# Altium footprint library PcbLib1.PcbLib: 53 footprints (part 4 of 4)
Each footprint in its own frame and in the unit in brackets; x right, y up, seen from the top. Pads: shape width x height; smd on the part's side, far side on the other; paste and mask are expansions set on the pad; w line width, h text height; cw(c..) or ccw(c..) is an arc to the next point about the centre after c.
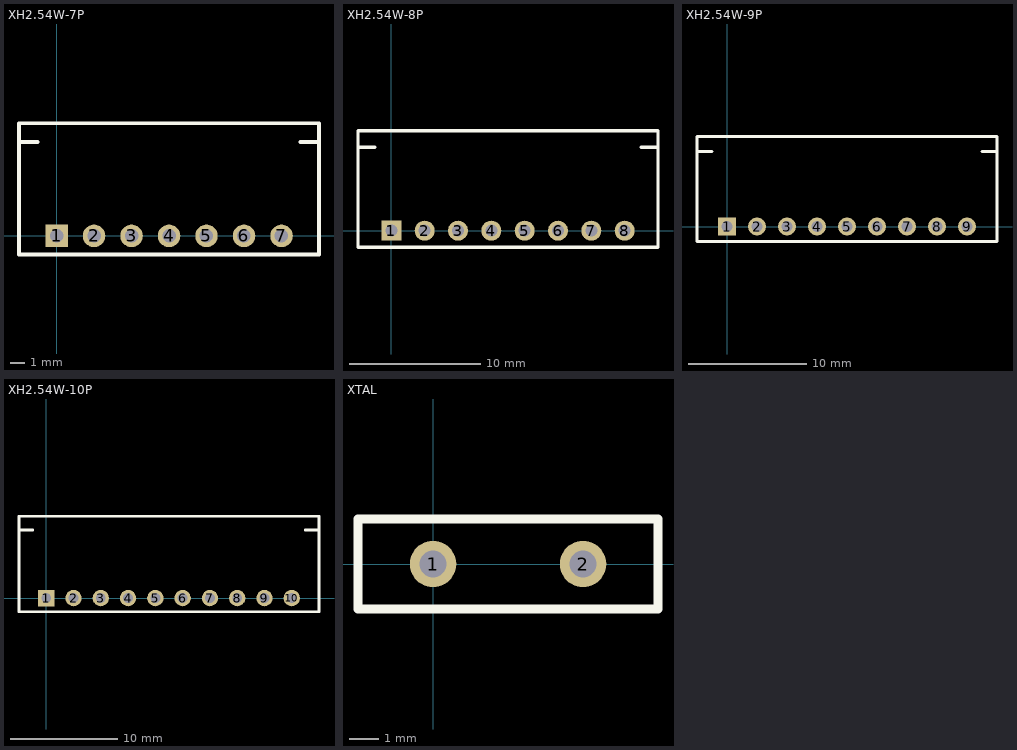
[diagram p3: the footprints below, top view; thin cyan lines are the x and y axes]

## XH2.54W-7P [mil]
pads (7):
  rect 60x60 hole 36: 1(0,0)
  round 60 hole 36: 2(100,0) 3(200,0) 4(300,0) 5(400,0) 6(500,0) 7(600,0)
Top Overlay:
  lines w10: -100,250 -50,250 ; 650,250 700,250 ; -100,-50 -100,300 700,300 700,-50 -100,-50

## XH2.54W-8P [mil]
pads (8):
  rect 60x60 hole 36: 1(0,0)
  round 60 hole 36: 2(100,0) 3(200,0) 4(300,0) 5(400,0) 6(500,0) 7(600,0) 8(700,0)
Top Overlay:
  lines w10: -100,250 -50,250 ; 750,250 800,250 ; -100,-50 800,-50 800,300 -100,300 -100,-50

## XH2.54W-9P [mil]
pads (9):
  rect 60x60 hole 36: 1(0,0)
  round 60 hole 36: 2(100,0) 3(200,0) 4(300,0) 5(400,0) 6(500,0) 7(600,0) 8(700,0) 9(800,0)
Top Overlay:
  lines w10: -100,250 -50,250 ; 850,250 900,250 ; -100,-50 -100,300 900,300 900,-50 -100,-50

## XH2.54W-10P [mil]
pads (10):
  rect 60x60 hole 36: 1(0,0)
  round 60 hole 36: 2(100,0) 3(200,0) 4(300,0) 5(400,0) 6(500,0) 7(600,0) 8(700,0) 9(800,0) 10(900,0)
Top Overlay:
  lines w10: -100,250 -50,250 ; 950,250 1000,250 ; -100,-50 1000,-50 1000,300 -100,300 -100,-50

## XTAL [mil]
height 170.08
pads (2):
  round 62 hole 35.43: 1(0,0) 2(200,0)
Top Overlay:
  lines w12: -100,-60 -100,60 300,60 300,-60 -100,-60